# Altium footprint library Connector-NET.PcbLib: 5 footprints
Each footprint in its own frame and in the unit in brackets; x right, y up, seen from the top. Pads: shape width x height; smd on the part's side, far side on the other; paste and mask are expansions set on the pad; w line width, h text height; cw(c..) or ccw(c..) is an arc to the next point about the centre after c.
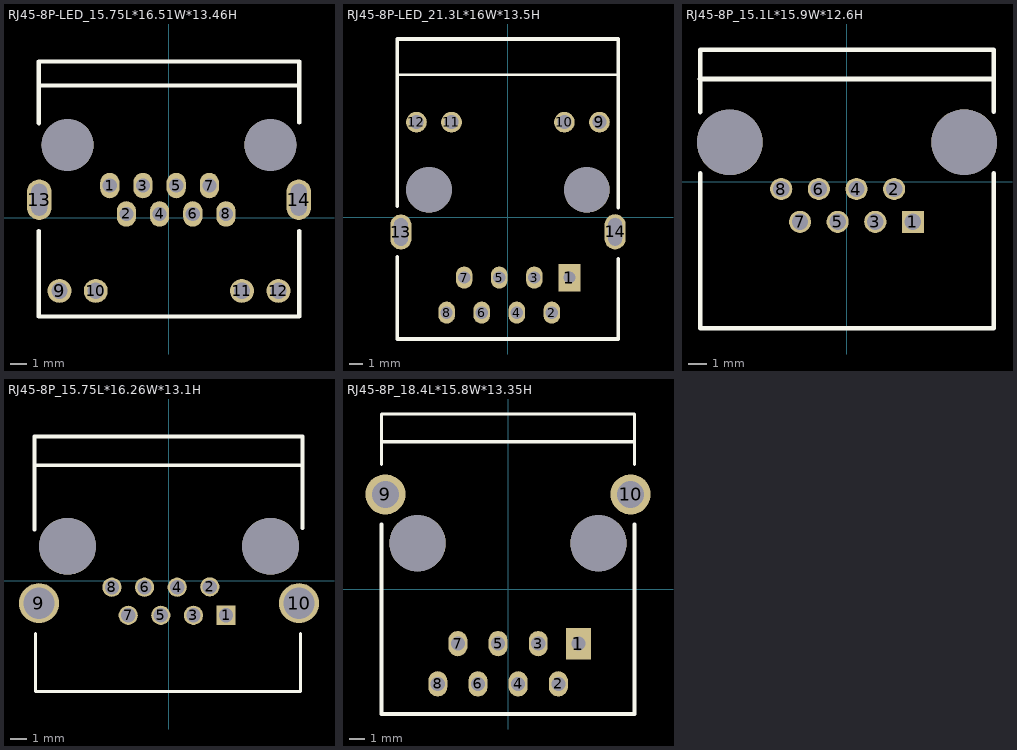
[diagram p0: the footprints below, top view; thin cyan lines are the x and y axes]

## RJ45-8P-LED_15.75L*16.51W*13.46H [mm] "HR911103A"
pads (16):
  oval 1.2x1.6 hole 0.89: 1(-3.71,2.03) 2(-2.67,0.25) 3(-1.63,2.03) 4(-0.59,0.25) 5(0.45,2.03) 6(1.49,0.25) 7(2.53,2.03) 8(3.57,0.25)
  round 1.5 hole 1.02: 9(-6.86,-4.57) 10(-4.59,-4.57) 11(4.57,-4.57) 12(6.86,-4.57)
  oval 1.524x2.54 hole 1 slot 2 at 90 deg: 13(-8.13,1.14) 14(8.13,1.14)
  round 3.25 hole 3.25: ""(-6.35,4.57) ""(6.35,4.57)
Top Overlay:
  lines w0.254: -8.163,-0.82 -8.163,-6.166 8.164,-6.166 8.164,-0.807 ; -8.157,5.934 -8.163,5.94 -8.163,9.794 8.164,9.794 8.164,5.995 ; -8.157,8.288 8.074,8.288

## RJ45-8P-LED_21.3L*16W*13.5H [mm] "HR911103A"
pads (16):
  rect 1.6x2 hole 0.89: 1(4.45,-4.355)
  oval 1.2x1.6 hole 0.89: 2(3.18,-6.895) 3(1.91,-4.355) 4(0.64,-6.895) 5(-0.63,-4.355) 6(-1.9,-6.895) 7(-3.17,-4.355) 8(-4.44,-6.895)
  round 1.5 hole 1.02: 9(6.625,6.895) 10(4.085,6.895) 11(-4.085,6.895) 12(-6.625,6.895)
  oval 1.524x2.54 hole 1 slot 2 at 90 deg: 13(-7.75,-1.055) 14(7.76,-1.04)
  round 3.3 hole 3.3: ""(-5.715,1.995) ""(5.715,1.995)
Top Overlay:
  lines w0.2: -8,10.32 8,10.32
  lines w0.254: -8,-2.852 -8,-8.8 8,-8.8 8,-2.983 ; -8,0.792 -8,12.915 8,12.915 8,0.698
3D body "User Library-HR911105A.step": height 13.59, standoff -2.91, extent -7.94,-8.509 7.94,12.891

## RJ45-8P_15.1L*15.9W*12.6H [mm]
pads (10):
  rect 1.2x1.2 hole 0.89: 1(3.573,-2.16)
  round 1.2 hole 0.89: 2(2.553,-0.38) 3(1.533,-2.16) 4(0.513,-0.38) 5(-0.507,-2.16) 6(-1.527,-0.38) 7(-2.547,-2.16) 8(-3.567,-0.38)
  round 3.556 hole 3.556: ""(-6.353,2.147) ""(6.353,2.16)
Top Overlay:
  lines w0.254: -7.967,5.58 7.913,5.58 ; -7.952,0.475 -7.952,-7.93 7.948,-7.93 7.948,0.475 ; -7.952,3.79 -7.952,7.17 7.948,7.17 ; 7.963,3.81 7.963,7.155

## RJ45-8P_15.75L*16.26W*13.1H [mm] "Ckmtw,R-RJ45R08P-B000"
pads (12):
  rect 1.2x1.2 hole 0.89: 1(3.57,-2.16)
  round 1.2 hole 0.89: 2(2.55,-0.38) 3(1.53,-2.16) 4(0.51,-0.4) 5(-0.51,-2.16) 6(-1.53,-0.4) 7(-2.55,-2.16) 8(-3.57,-0.4)
  round 2.5 hole 1.95: 9(-8.13,-1.4) 10(8.13,-1.4)
  round 3.556 hole 3.556: ""(-6.347,2.157) ""(6.35,2.16)
Top Overlay:
  lines w0.203: -8.41,7.22 8.3,7.22 ; -8.35,-3.314 -8.35,-6.92 8.23,-6.92 8.23,-3.313
  lines w0.254: -8.41,3.22 -8.41,9.02 8.35,9.02 8.35,3.3

## RJ45-8P_18.4L*15.8W*13.35H [mm] "Ckmtw R-RJ45R10P-B000"
pads (12):
  rect 1.6x2 hole 0.89: 1(4.452,-3.447)
  oval 1.2x1.6 hole 0.89: 2(3.182,-5.987) 3(1.912,-3.447) 4(0.642,-5.987) 5(-0.628,-3.447) 6(-1.898,-5.987) 7(-3.168,-3.447) 8(-4.438,-5.987)
  round 2.54 hole 1.7: 9(-7.749,5.988) 10(7.749,5.988)
  round 3.556 hole 3.556: ""(-5.713,2.903) ""(5.717,2.903)
Top Overlay:
  lines w0.203: -8,9.32 7.96,9.32 ; -7.998,7.893 -7.998,11.068 8.002,11.068 8.002,7.894
  lines w0.254: -7.998,4.083 -7.998,-7.892 8.002,-7.892 8.002,4.083